# Altium schematic symbol library Schlib1.SchLib: 1 symbol
Pins are listed as number, name and electrical type; pins without a type are passive.

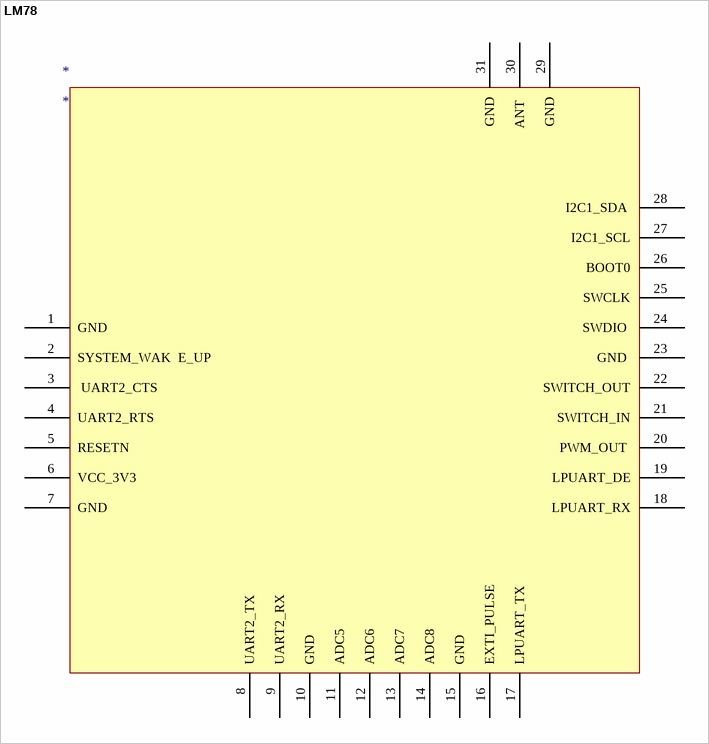
[diagram p0: symbol LM78]

## LM78
designator *
pins: 1 GND , 2 SYSTEM_WAK  E_UP , 3  UART2_CTS , 4 UART2_RTS , 5 RESETN , 6 VCC_3V3 , 7 GND, 8 UART2_TX , 9 UART2_RX, 10 GND, 11 ADC5, 12 ADC6, 13 ADC7 , 14 ADC8 , 15 GND , 16 EXTI_PULSE, 17 LPUART_TX , 18 LPUART_RX, 19 LPUART_DE, 20 PWM_OUT , 21 SWITCH_IN, 22 SWITCH_OUT, 23 GND , 24 SWDIO , 25 SWCLK, 26 BOOT0, 27 I2C1_SCL, 28 I2C1_SDA , 29 GND, 30 ANT , 31 GND